# Altium schematic symbol library LM1117T-3.3.SchLib: 1 symbol
Pins are listed as number, name and electrical type; pins without a type are passive.

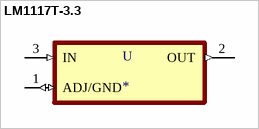
[diagram p0: symbol LM1117T-3.3]

## LM1117T-3.3
designator U
800-mA 15-V linear voltage regulator 3-TO-220 0 to 125; MP: LM1117T-3.3/NOPB; MF: Texas Instruments; Arrow_Electronics-Purchase-URL: https://snapeda.com/shop?store=Arrow+Electronics&id=22275; Availability: Unavailable; Texas_Instruments-Purchase-URL: https://snapeda.com/shop?store=Texas+Instruments&id=22275; DigiKey-Purchase-URL: https://snapeda.com/shop?store=DigiKey&id=22275; Price: None; Value: *; SnapEDA_Link: https://www.snapeda.com/parts/LM1117T-3.3/NOPB/Texas%20Instruments/view-part/22275/?ref=snap; Package: TO-220-3 Texas Instruments; Mouser-Purchase-URL: https://snapeda.com/shop?store=Mouser&id=22275
footprint TO254P1054X470X1955-3
pins: 1 ADJ/GND (io), 2 OUT (out), 3 IN (in)